# EAGLE library part A6832SEPTR-T (library Allegro_By_element14_Batch_1)
DABiC-5 32-Bit Serial Input Latched Sink Drivers
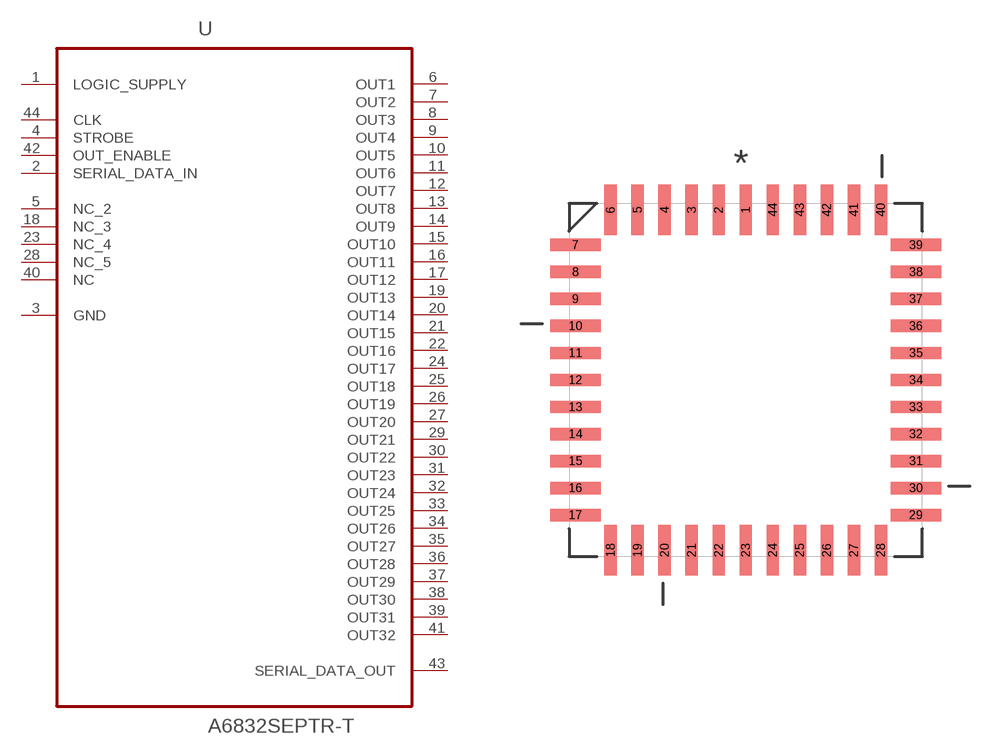
[diagram p25: symbol with the pads of PLCC127P1753X1753X457-44N; footprint PLCC127P1753X1753X457-44N]

Designator prefix U

## A6832SEPTR-T (MPN: A6832SEPTR-T; OC_FARNELL: -; OC_NEWARK: 31K6684; PACKAGE: PLCC-44; SUPPLIER: ALLEGRO MICROSYSTEMS)  [PLCC127P1753X1753X457-44N]
1  LOGIC_SUPPLY  pwr
2  SERIAL_DATA_IN  in
3  GND  pas
4  STROBE  in
5  NC_2  nc
6  OUT1  out
7  OUT2  out
8  OUT3  out
9  OUT4  out
10  OUT5  out
11  OUT6  out
12  OUT7  out
13  OUT8  out
14  OUT9  out
15  OUT10  out
16  OUT11  out
17  OUT12  out
18  NC_3  nc
19  OUT13  out
20  OUT14  out
21  OUT15  out
22  OUT16  out
23  NC_4  nc
24  OUT17  out
25  OUT18  out
26  OUT19  out
27  OUT20  out
28  NC_5  nc
29  OUT21  out
30  OUT22  out
31  OUT23  out
32  OUT24  out
33  OUT25  out
34  OUT26  out
35  OUT27  out
36  OUT28  out
37  OUT29  out
38  OUT30  out
39  OUT31  out
40  NC  nc
41  OUT32  out
42  OUT_ENABLE  in
43  SERIAL_DATA_OUT  out
44  CLK  in

## Footprint PLCC127P1753X1753X457-44N (pad centres in mm)
smd 0.584 x 2.388: 1 0,8.001; 2 -1.27,8.001; 3 -2.54,8.001; 4 -3.81,8.001; 5 -5.08,8.001; 6 -6.35,8.001; 18 -6.35,-8.001; 19 -5.08,-8.001; 20 -3.81,-8.001; 21 -2.54,-8.001; 22 -1.27,-8.001; 23 0,-8.001; 24 1.27,-8.001; 25 2.54,-8.001; 26 3.81,-8.001; 27 5.08,-8.001; 28 6.35,-8.001; 40 6.35,8.001; 41 5.08,8.001; 42 3.81,8.001; 43 2.54,8.001; 44 1.27,8.001
smd 2.388 x 0.584: 7 -8.001,6.35; 8 -8.001,5.08; 9 -8.001,3.81; 10 -8.001,2.54; 11 -8.001,1.27; 12 -8.001,0; 13 -8.001,-1.27; 14 -8.001,-2.54; 15 -8.001,-3.81; 16 -8.001,-5.08; 17 -8.001,-6.35; 29 8.001,-6.35; 30 8.001,-5.08; 31 8.001,-3.81; 32 8.001,-2.54; 33 8.001,-1.27; 34 8.001,0; 35 8.001,1.27; 36 8.001,2.54; 37 8.001,3.81; 38 8.001,5.08; 39 8.001,6.35